# Altium schematic symbol library OLEDp96MOD_BOARD_MOUNT.SchLib: 1 symbol
Pins are listed as number, name and electrical type; pins without a type are passive.

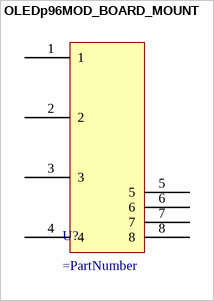
[diagram p0: symbol OLEDp96MOD_BOARD_MOUNT]

## OLEDp96MOD_BOARD_MOUNT
designator U?
pins: 1, 2, 3, 4, 5, 6, 7, 8